# EAGLE library part NJM2752 (library jrc)
2-Input / 1-Output Stereo Audio Selector
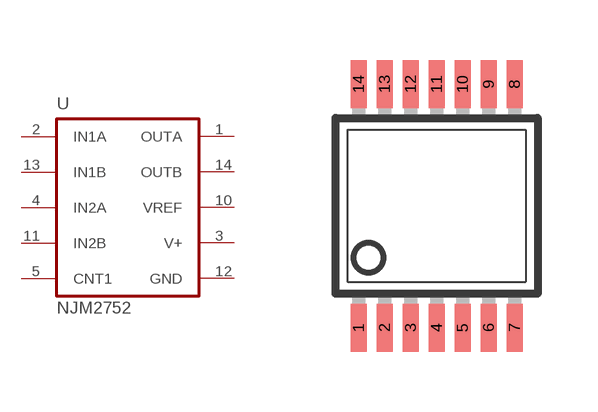
[diagram p0: symbol with the pads of SSOP20; footprint SSOP20]

Designator prefix U

## NJM2752  [SSOP20]
1  OUTA
2  IN1A
3  V+  pwr
4  IN2A
5  CNT1  pas
10  VREF  pas
11  IN2B
12  GND  pwr
13  IN1B
14  OUTB

## Footprint SSOP20 (pad centres in mm)
Small Shrink Outline Package 4.4 mm body
smd 0.4 x 1.2: 1 -1.95,-3.05; 2 -1.3,-3.05; 3 -0.65,-3.05; 4 0,-3.05; 5 0.65,-3.05; 6 1.3,-3.05; 7 1.95,-3.05; 8 1.95,3.05; 9 1.3,3.05; 10 0.65,3.05; 11 0,3.05; 12 -0.65,3.05; 13 -1.3,3.05; 14 -1.95,3.05